# EAGLE library part SI-60002-F (library Connector)
CONN MAGJACK 1PORT 100 BASE-T
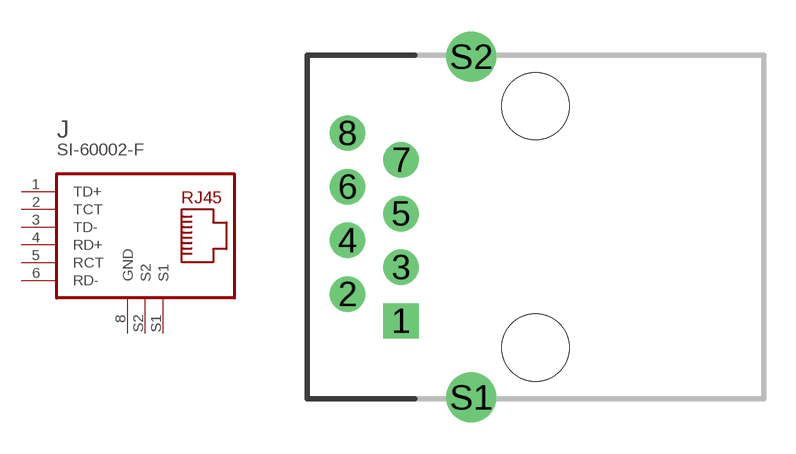
[diagram p5: symbol with the pads of SI-60002; footprint SI-60002]

Designator prefix J

## SI-60002-F (DK: 380-1105-ND)  [SI-60002]
1  TD+  pas
2  TCT  pas
3  TD-  pas
4  RD+  pas
5  RCT  pas
6  RD-  pas
8  GND  pas
S1  S1  pas
S2  S2  pas

## Footprint SI-60002 (pad centres in mm)
MAGJACK 08B1-1X1T-36-F Datasheet <http://belfuse.com/pdfs/SI-60002-F.pdf> Digikey <http://www.digikey.com/product-detail/en/SI-60002-F/380-1105-ND/1033371>
drill 0.914 pad 1.676 square: 1 -6.35,-4.445
drill 0.914 pad 1.676: 2 -8.89,-3.175; 3 -6.35,-1.905; 4 -8.89,-0.635; 5 -6.35,0.635; 6 -8.89,1.905; 7 -6.35,3.175; 8 -8.89,4.445
drill 1.575: S1 -3.048,-8.065; S2 -3.048,8.065
hole 3.175 at 0,-5.715
hole 3.175 at 0,5.715